# Altium schematic symbol library Schlib1.SchLib: 4 symbols
Pins are listed as number, name and electrical type; pins without a type are passive.

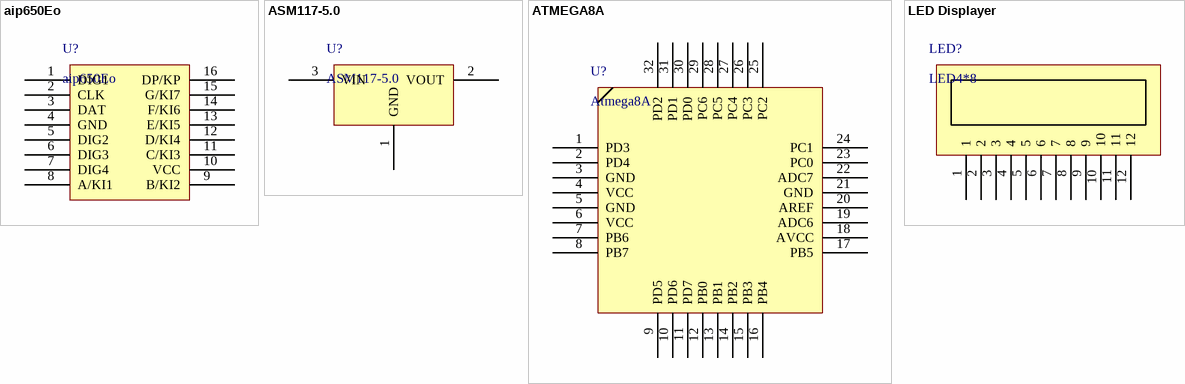
[diagram p0: symbols aip650Eo to LED Displayer]

## aip650Eo
designator U?
LED driver
pins: 1 DIG1, 2 CLK, 3 DAT, 4 GND, 5 DIG2, 6 DIG3, 7 DIG4, 8 A/KI1, 9 B/KI2, 10 VCC, 11 C/KI3, 12 D/KI4, 13 E/KI5, 14 F/KI6, 15 G/KI7, 16 DP/KP

## ASM117-5.0
designator U?
5V 1A LOW DROPOUT VOLTAGE REGULATOR
pins: 1 GND, 2 VOUT, 3 VIN

## ATMEGA8A
designator U?, comment Atmega8A
AVR 8bit microcontroller
pins: 1 PD3, 2 PD4, 3 GND, 4 VCC, 5 GND, 6 VCC, 7 PB6, 8 PB7, 9 PD5, 10 PD6, 11 PD7, 12 PB0, 13 PB1, 14 PB2, 15 PB3, 16 PB4, 17 PB5, 18 AVCC, 19 ADC6, 20 AREF, 21 GND, 22 ADC7, 23 PC0, 24 PC1, 25 PC2, 26 PC3, 27 PC4, 28 PC5, 29 PC6, 30 PD0, 31 PD1, 32 PD2

## LED Displayer
designator LED?, comment LED4*8
4 digital LED Displayer
pins: 1, 2, 3, 4, 5, 6, 7, 8, 9, 10, 11, 12